# EAGLE library part 1.28TFT (library LARS_409_MODULES)
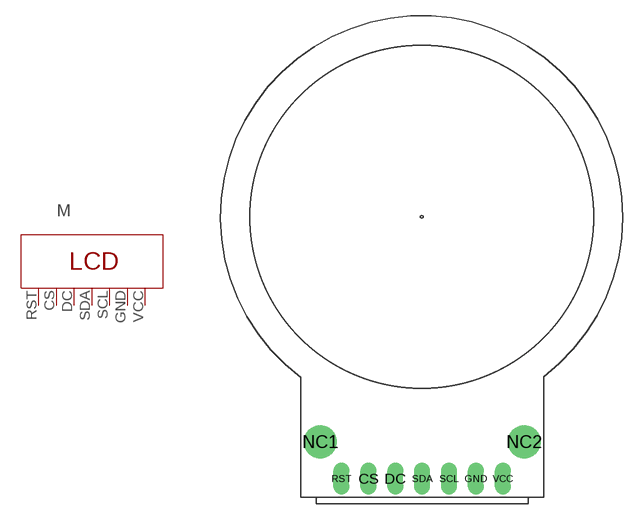
[diagram p9: symbol with the pads of TFT1.28INCH; footprint TFT1.28INCH]

Designator prefix M

## 1.28TFT  [TFT1.28INCH]
CS  P$2
DC  P$3
GND  P$6
RST  P$1
SCL  P$5
SDA  P$4
VCC  P$7

## Footprint TFT1.28INCH (pad centres in mm)
drill 1.016 long: CS -5.08,2.36; DC -2.54,2.36; GND 5.08,2.36; RST -7.62,2.36; SCL 2.54,2.36; SDA 0,2.36; VCC 7.62,2.36
drill 2.1: NC1 -9.63,5.83; NC2 9.63,5.83